# Altium schematic symbol library Connector - USB.SchLib: 22 symbols
Pins are listed as number, name and electrical type; pins without a type are passive.

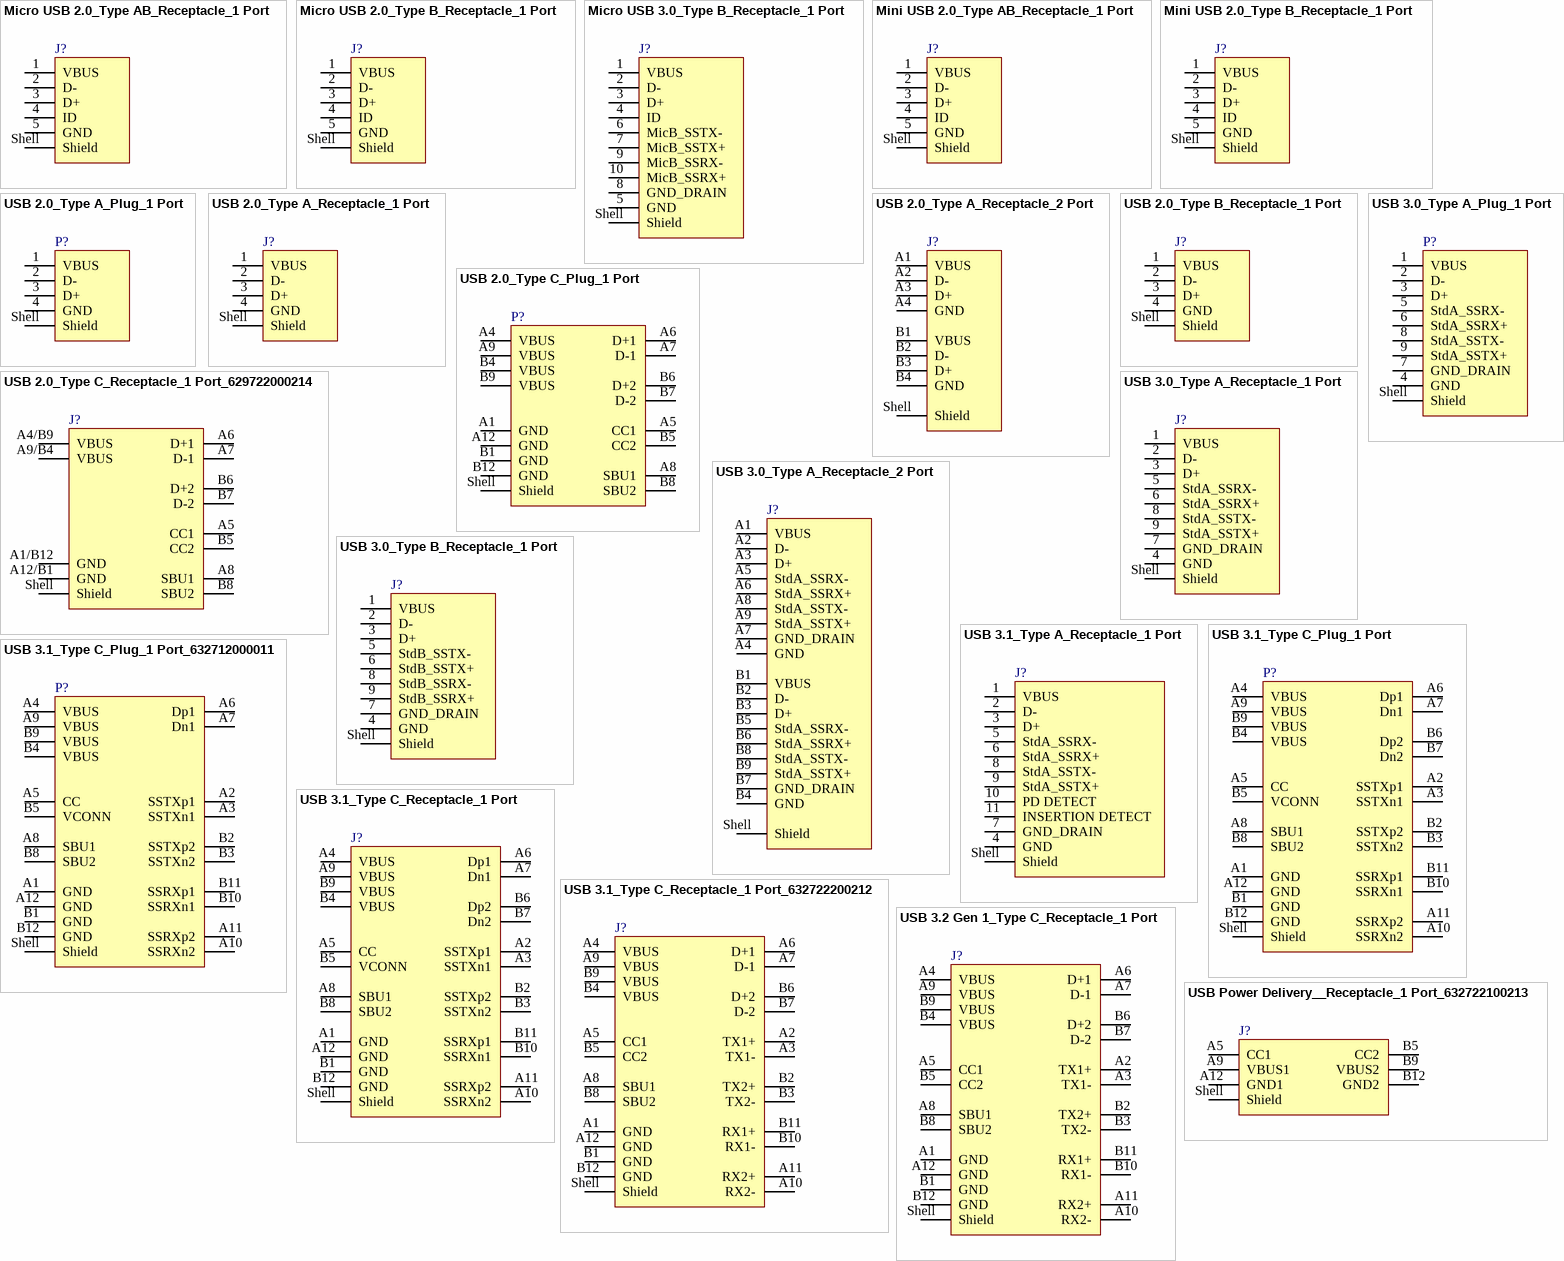
[diagram p0: symbols Micro USB 2.0_Type AB_Receptacle_1 Port to USB Power Delivery__Receptacle_1 Port_632722100213]

## Micro USB 2.0_Type AB_Receptacle_1 Port
designator J?
pins: 1 VBUS, 2 D-, 3 D+, 4 ID, 5 GND, Shell Shield

## Micro USB 2.0_Type B_Receptacle_1 Port
designator J?
pins: 1 VBUS, 2 D-, 3 D+, 4 ID, 5 GND, Shell Shield

## Micro USB 3.0_Type B_Receptacle_1 Port
designator J?
pins: 1 VBUS, 2 D-, 3 D+, 4 ID, 5 GND, 6 MicB_SSTX-, 7 MicB_SSTX+, 8 GND_DRAIN, 9 MicB_SSRX-, 10 MicB_SSRX+, Shell Shield

## Mini USB 2.0_Type AB_Receptacle_1 Port
designator J?
pins: 1 VBUS, 2 D-, 3 D+, 4 ID, 5 GND, Shell Shield

## Mini USB 2.0_Type B_Receptacle_1 Port
designator J?
pins: 1 VBUS, 2 D-, 3 D+, 4 ID, 5 GND, Shell Shield

## USB 2.0_Type A_Plug_1 Port
designator P?
pins: 1 VBUS, 2 D-, 3 D+, 4 GND, Shell Shield

## USB 2.0_Type A_Receptacle_1 Port
designator J?
pins: 1 VBUS, 2 D-, 3 D+, 4 GND, Shell Shield

## USB 2.0_Type A_Receptacle_2 Port
designator J?
pins: A1 VBUS, A2 D-, A3 D+, A4 GND, B1 VBUS, B2 D-, B3 D+, B4 GND, Shell Shield

## USB 2.0_Type B_Receptacle_1 Port
designator J?
pins: 1 VBUS, 2 D-, 3 D+, 4 GND, Shell Shield

## USB 2.0_Type C_Plug_1 Port
designator P?
pins: A1 GND, A4 VBUS, A5 CC1, A6 D+1, A7 D-1, A8 SBU1, A9 VBUS, A12 GND, B1 GND, B4 VBUS, B5 CC2, B6 D+2, B7 D-2, B8 SBU2, B9 VBUS, B12 GND, Shell Shield

## USB 2.0_Type C_Receptacle_1 Port_629722000214
designator J?
pins: A1/B12 GND, A4/B9 VBUS, A5 CC1, A6 D+1, A7 D-1, A8 SBU1, A9/B4 VBUS, A12/B1 GND, B5 CC2, B6 D+2, B7 D-2, B8 SBU2, Shell Shield

## USB 3.0_Type A_Plug_1 Port
designator P?
pins: 1 VBUS, 2 D-, 3 D+, 4 GND, 5 StdA_SSRX-, 6 StdA_SSRX+, 7 GND_DRAIN, 8 StdA_SSTX-, 9 StdA_SSTX+, Shell Shield

## USB 3.0_Type A_Receptacle_1 Port
designator J?
pins: 1 VBUS, 2 D-, 3 D+, 4 GND, 5 StdA_SSRX-, 6 StdA_SSRX+, 7 GND_DRAIN, 8 StdA_SSTX-, 9 StdA_SSTX+, Shell Shield

## USB 3.0_Type A_Receptacle_2 Port
designator J?
pins: A1 VBUS, A2 D-, A3 D+, A4 GND, A5 StdA_SSRX-, A6 StdA_SSRX+, A7 GND_DRAIN, A8 StdA_SSTX-, A9 StdA_SSTX+, B1 VBUS, B2 D-, B3 D+, B4 GND, B5 StdA_SSRX-, B6 StdA_SSRX+, B7 GND_DRAIN, B8 StdA_SSTX-, B9 StdA_SSTX+, Shell Shield

## USB 3.0_Type B_Receptacle_1 Port
designator J?
pins: 1 VBUS, 2 D-, 3 D+, 4 GND, 5 StdB_SSTX-, 6 StdB_SSTX+, 7 GND_DRAIN, 8 StdB_SSRX-, 9 StdB_SSRX+, Shell Shield

## USB 3.1_Type A_Receptacle_1 Port
designator J?
pins: 1 VBUS, 2 D-, 3 D+, 4 GND, 5 StdA_SSRX-, 6 StdA_SSRX+, 7 GND_DRAIN, 8 StdA_SSTX-, 9 StdA_SSTX+, 10 PD DETECT, 11 INSERTION DETECT, Shell Shield

## USB 3.1_Type C_Plug_1 Port
designator P?
pins: A1 GND, A2 SSTXp1, A3 SSTXn1, A4 VBUS, A5 CC, A6 Dp1, A7 Dn1, A8 SBU1, A9 VBUS, A10 SSRXn2, A11 SSRXp2, A12 GND, B1 GND, B2 SSTXp2, B3 SSTXn2, B4 VBUS, B5 VCONN, B6 Dp2, B7 Dn2, B8 SBU2, B9 VBUS, B10 SSRXn1, B11 SSRXp1, B12 GND, Shell Shield

## USB 3.1_Type C_Plug_1 Port_632712000011
designator P?
pins: A1 GND, A2 SSTXp1, A3 SSTXn1, A4 VBUS, A5 CC, A6 Dp1, A7 Dn1, A8 SBU1, A9 VBUS, A10 SSRXn2, A11 SSRXp2, A12 GND, B1 GND, B2 SSTXp2, B3 SSTXn2, B4 VBUS, B5 VCONN, B8 SBU2, B9 VBUS, B10 SSRXn1, B11 SSRXp1, B12 GND, Shell Shield

## USB 3.1_Type C_Receptacle_1 Port
designator J?
pins: A1 GND, A2 SSTXp1, A3 SSTXn1, A4 VBUS, A5 CC, A6 Dp1, A7 Dn1, A8 SBU1, A9 VBUS, A10 SSRXn2, A11 SSRXp2, A12 GND, B1 GND, B2 SSTXp2, B3 SSTXn2, B4 VBUS, B5 VCONN, B6 Dp2, B7 Dn2, B8 SBU2, B9 VBUS, B10 SSRXn1, B11 SSRXp1, B12 GND, Shell Shield

## USB 3.1_Type C_Receptacle_1 Port_632722200212
designator J?
pins: A1 GND, A2 TX1+, A3 TX1-, A4 VBUS, A5 CC1, A6 D+1, A7 D-1, A8 SBU1, A9 VBUS, A10 RX2-, A11 RX2+, A12 GND, B1 GND, B2 TX2+, B3 TX2-, B4 VBUS, B5 CC2, B6 D+2, B7 D-2, B8 SBU2, B9 VBUS, B10 RX1-, B11 RX1+, B12 GND, Shell Shield

## USB 3.2 Gen 1_Type C_Receptacle_1 Port
designator J?
pins: A1 GND, A2 TX1+, A3 TX1-, A4 VBUS, A5 CC1, A6 D+1, A7 D-1, A8 SBU1, A9 VBUS, A10 RX2-, A11 RX2+, A12 GND, B1 GND, B2 TX2+, B3 TX2-, B4 VBUS, B5 CC2, B6 D+2, B7 D-2, B8 SBU2, B9 VBUS, B10 RX1-, B11 RX1+, B12 GND, Shell Shield

## USB Power Delivery__Receptacle_1 Port_632722100213
designator J?
pins: A5 CC1, A9 VBUS1, A12 GND1, B5 CC2, B9 VBUS2, B12 GND2, Shell Shield